# Altium footprint library BAT_BH-CR2-PC.PcbLib: 1 footprints
Each footprint in its own frame and in the unit in brackets; x right, y up, seen from the top. Pads: shape width x height; smd on the part's side, far side on the other; paste and mask are expansions set on the pad; w line width, h text height; cw(c..) or ccw(c..) is an arc to the next point about the centre after c.
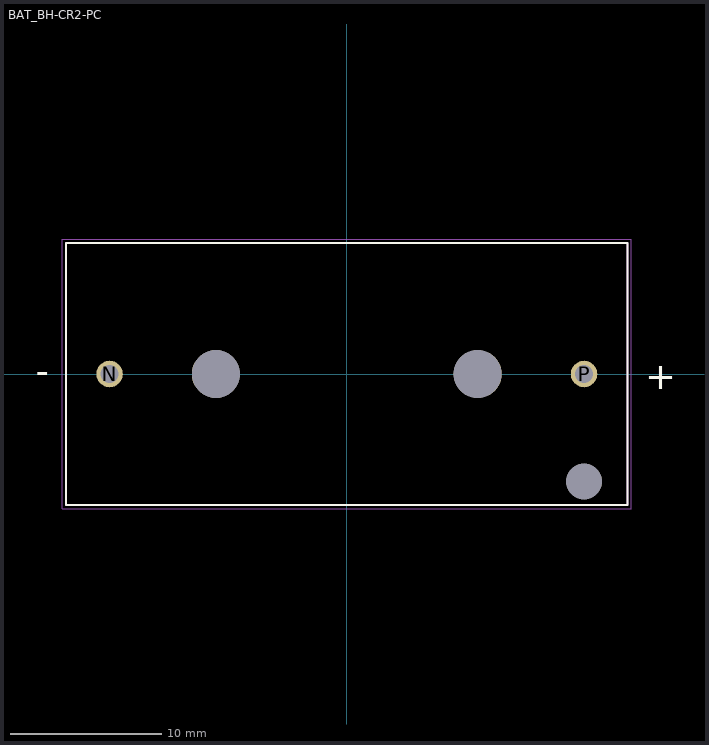
[diagram p0: the footprint, top view; thin cyan lines are the x and y axes]

## BAT_BH-CR2-PC [mm]
pads (5):
  round 1.755 hole 1.17: N(-15.695,0) P(15.695,0)
  round 3.18 hole 3.18 unplated: ""(-8.66,0) ""(8.66,0)
  round 2.36 hole 2.36 unplated: ""(15.695,-7.11)
Top Overlay:
  lines w0.127: -18.565,-8.66 18.565,-8.66 18.565,8.66 -18.565,8.66 -18.565,-8.66
  text "+" at 19.75,-1 h1.78
  text "-" at -20.574,-0.635 h1.78
Mechanical 13:
  lines w0.127: -18.565,-8.66 18.565,-8.66 18.565,8.66 -18.565,8.66 -18.565,-8.66
  text "+" at 19.75,-1 h1.78
  text "-" at -20.574,-0.635 h1.78
Mechanical 15:
  lines w0.05: -18.815,-8.91 18.815,-8.91 18.815,8.91 -18.815,8.91 -18.815,-8.91
3D body "step_temp.STEP": height 15.24, standoff -5.33, extent -18.565,-8.66 18.565,8.66